# EAGLE library part LEA-M8 (library ublox)
u-blox LEA GNSS module
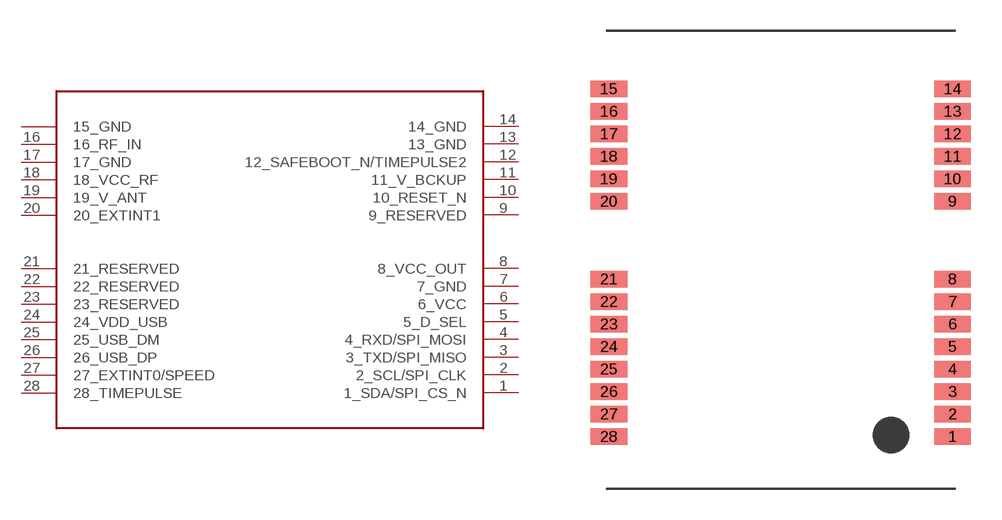
[diagram p18: symbol with the pads of LEA-M8; footprint LEA-M8]

Designator prefix -

## LEA-M8  [LEA-M8]
1  1_SDA/SPI_CS_N
2  2_SCL/SPI_CLK
3  3_TXD/SPI_MISO
4  4_RXD/SPI_MOSI
5  5_D_SEL
6  6_VCC
7  7_GND
8  8_VCC_OUT
9  9_RESERVED
10  10_RESET_N
11  11_V_BCKUP
12  12_SAFEBOOT_N/TIMEPULSE2
13  13_GND
14  14_GND
15  15_GND
16  16_RF_IN
17  17_GND
18  18_VCC_RF
19  19_V_ANT
20  20_EXTINT1
21  21_RESERVED
22  22_RESERVED
23  23_RESERVED
24  24_VDD_USB
25  25_USB_DM
26  26_USB_DP
27  27_EXTINT0/SPEED
28  28_TIMEPULSE

## Footprint LEA-M8 (pad centres in mm)
u-blox LEA GNSS module
smd 1.8 x 0.8: 1 8.4,-8.65; 2 8.4,-7.55; 3 8.4,-6.45; 4 8.4,-5.35; 5 8.4,-4.25; 6 8.4,-3.15; 7 8.4,-2.05; 8 8.4,-0.95; 9 8.4,2.85; 10 8.4,3.95; 11 8.4,5.05; 12 8.4,6.15; 13 8.4,7.25; 14 8.4,8.35; 15 -8.4,8.35; 16 -8.4,7.25; 17 -8.4,6.15; 18 -8.4,5.05; 19 -8.4,3.95; 20 -8.4,2.85; 21 -8.4,-0.95; 22 -8.4,-2.05; 23 -8.4,-3.15; 24 -8.4,-4.25; 25 -8.4,-5.35; 26 -8.4,-6.45; 27 -8.4,-7.55; 28 -8.4,-8.65